# Altium schematic symbol library DEV_Boards.SchLib: 1 symbol
Pins are listed as number, name and electrical type; pins without a type are passive.

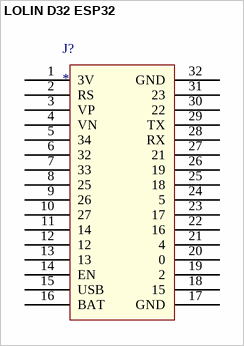
[diagram p0: symbol LOLIN D32 ESP32]

## LOLIN D32 ESP32
designator J?
pins: 1 3V, 2 RS, 3 VP, 4 VN, 5 34, 6 32, 7 33, 8 25, 9 26, 10 27, 11 14, 12, 13, 14 EN, 15 USB, 16 BAT, 17 GND, 18 15, 19 2, 20 0, 21 4, 22 16, 23 17, 24 5, 25 18, 26 19, 27 21, 28 RX, 29 TX, 30 22, 31 23, 32 GND